# EAGLE library part AD7091BCPZ-RL7 (library ic-power)
ADC, 5.25V, 12BIT, 1MSPS, 8LFCSP
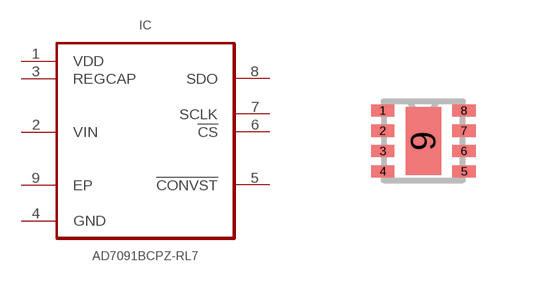
[diagram p3: symbol with the pads of DFN200X200X60-9N; footprint DFN200X200X60-9N]

Designator prefix IC

## AD7091BCPZ-RL7 (MPN: AD7091BCPZ-RL7; OC_FARNELL: 2254925; OC_NEWARK: 54W6623; PACKAGE: LFCSP-8; SUPPLIER: ANALOG DEVICES)  [DFN200X200X60-9N]
1  VDD  pas
2  VIN  in
3  REGCAP  pas
4  GND  pas
5  !CONVST  in
6  !CS  in
7  SCLK  in
8  SDO  out
9  EP  pas

## Footprint DFN200X200X60-9N (pad centres in mm)
smd 0.584 x 0.305: 1 -1.016,0.762; 2 -1.016,0.254; 3 -1.016,-0.254; 4 -1.016,-0.762; 5 1.016,-0.762; 6 1.016,-0.254; 7 1.016,0.254; 8 1.016,0.762
smd 0.889 x 1.702: 9 0,0